# Altium footprint library LTC7000EMSEPBF.PcbLib: 1 footprints
Each footprint in its own frame and in the unit in brackets; x right, y up, seen from the top. Pads: shape width x height; smd on the part's side, far side on the other; paste and mask are expansions set on the pad; w line width, h text height; cw(c..) or ccw(c..) is an arc to the next point about the centre after c.
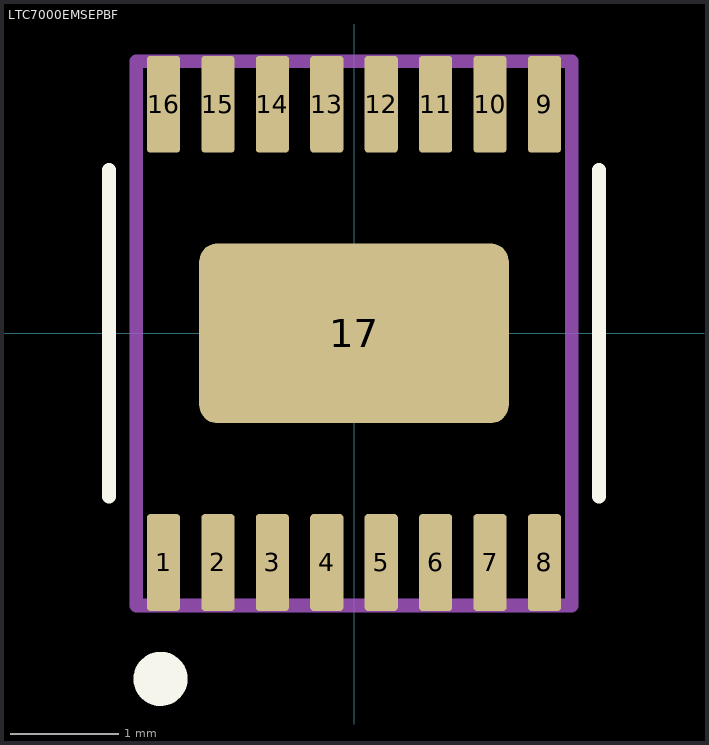
[diagram p0: the footprint, top view; thin cyan lines are the x and y axes]

## LTC7000EMSEPBF [mm]
pads (17):
  rrect20% 0.305x0.889 smd: 1(-1.75,-2.105) 2(-1.25,-2.105) 3(-0.75,-2.105) 4(-0.25,-2.105) 5(0.25,-2.105) 6(0.75,-2.105) 7(1.25,-2.105) 8(1.75,-2.105) 9(1.75,2.105) 10(1.25,2.105) 11(0.75,2.105) 12(0.25,2.105) 13(-0.25,2.105) 14(-0.75,2.105) 15(-1.25,2.105) 16(-1.75,2.105)
  rrect20% 2.845x1.651 smd: 17(0,0)
Top Overlay:
  circle w0.254: c-1.778,-3.175 r0.122
  lines w0.127: -2.25,-1.5 -2.25,1.5 ; 2.25,-1.5 2.25,1.5
Mechanical 13 (Mech13):
  lines w0.127: -2,-2.5 -2,2.5 2,2.5 2,-2.5 -2,-2.5
Mechanical 15:
  lines w0.127: -0.5,0 -0.25,0 0,0 ; 0,-0.5 0,0 ; 0,0.5 0,0 ; 0.5,0 0,0
3D body "SOP50P490X110-16-Linear-MSE-Package-16-Lead-Plastic-MSOP-Exposed-Die-Pad-dwg-05-08-1667-Rev-F.STEP": height 1.1, standoff 0, extent -2.019,-2.462 2.019,2.463